# Altium footprint library LED.PcbLib: 32 footprints (part 1 of 2)
Each footprint in its own frame and in the unit in brackets; x right, y up, seen from the top. Pads: shape width x height; smd on the part's side, far side on the other; paste and mask are expansions set on the pad; w line width, h text height; cw(c..) or ccw(c..) is an arc to the next point about the centre after c.
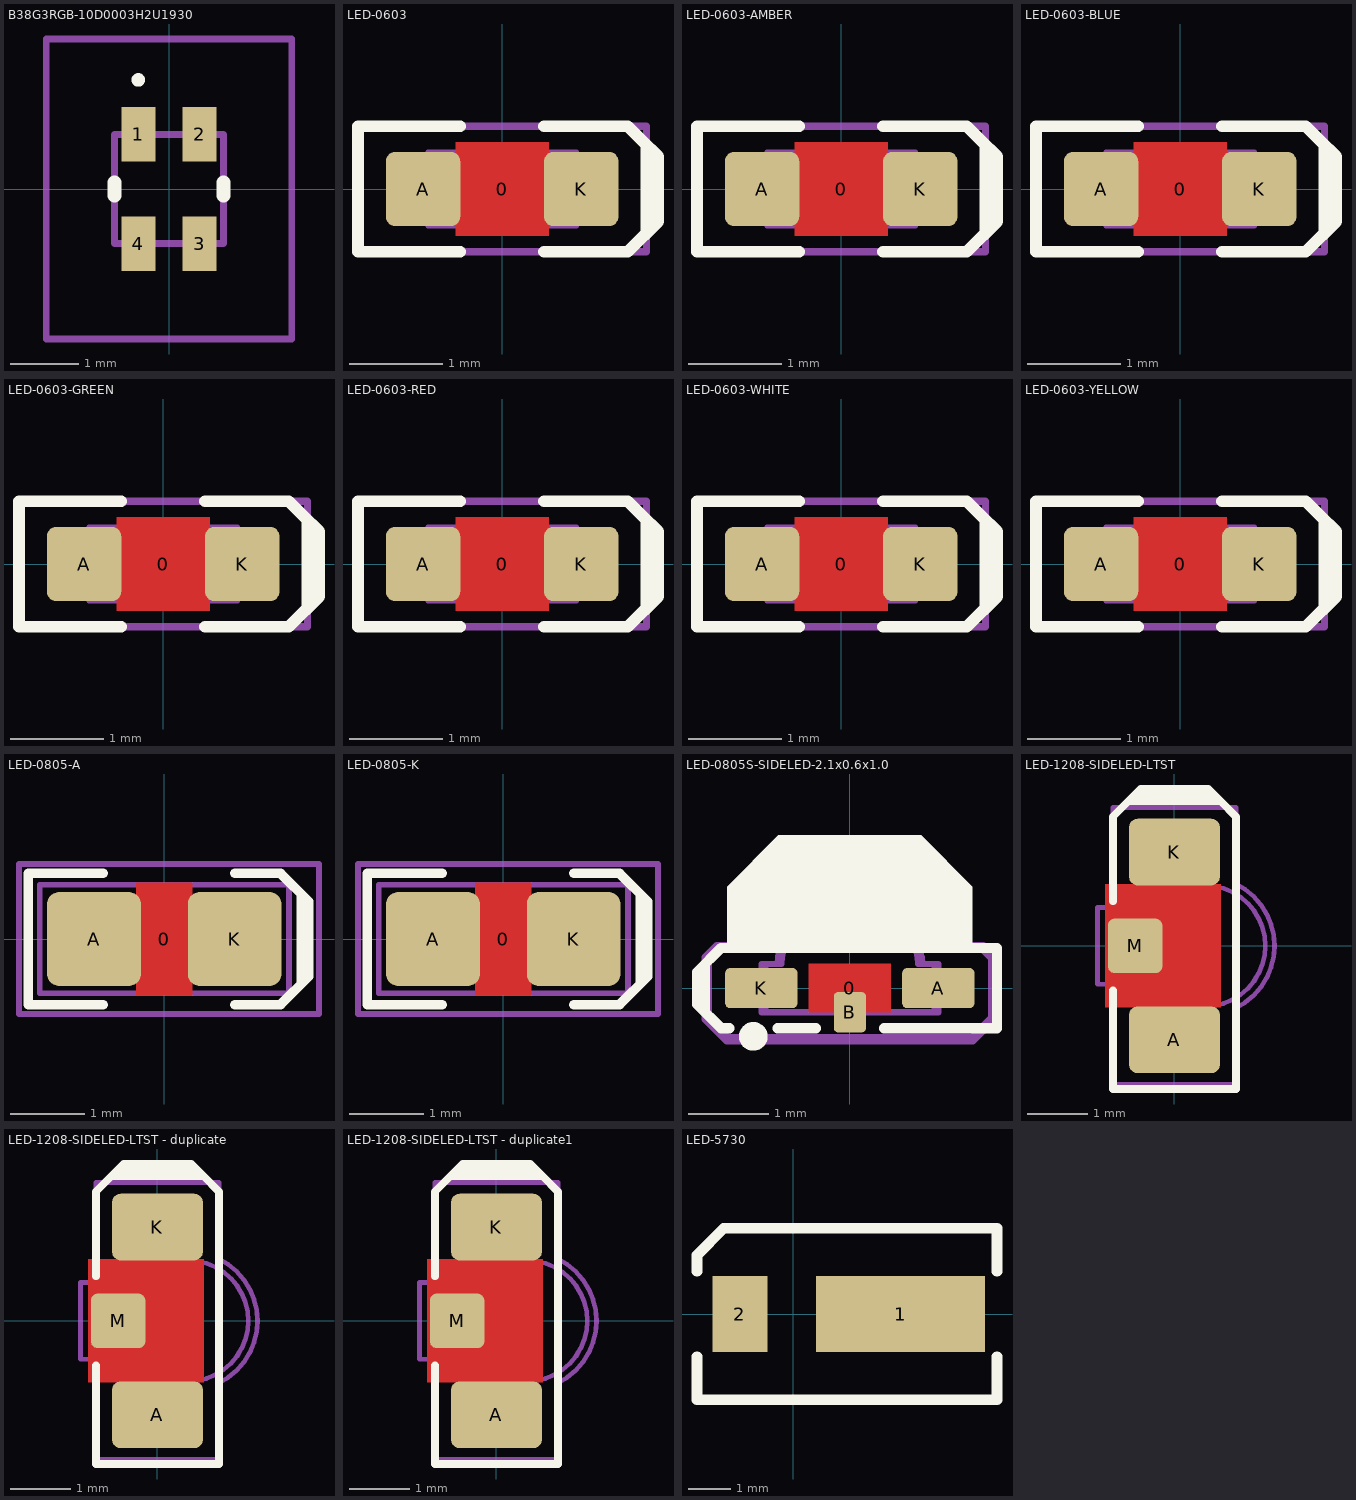
[diagram p0: the footprints below, top view; thin cyan lines are the x and y axes]

## B38G3RGB-10D0003H2U1930 [mm]
pads (4):
  rect 0.5x0.8 smd: 1(-0.45,0.8) 2(0.45,0.8) 3(0.45,-0.8) 4(-0.45,-0.8)
Top Overlay:
  lines w0.1: -0.5,1.6 ccw(c-0.45,1.6) -0.4,1.6 ccw(c-0.45,1.6) -0.5,1.6
  lines w0.2: -0.8,-0.1 -0.8,0.1 ; 0.8,-0.1 0.8,0.1
Mechanical 13:
  lines w0.1: -0.8,-0.8 -0.8,0.8 0.8,0.8 0.8,-0.8 -0.8,-0.8
Mechanical 15:
  lines w0.1: -1.8,-2.2 -1.8,2.2 1.8,2.2 1.8,-2.2 -1.8,-2.2
3D body "B38G3RGB-10D0003H2U1930.stp": height 0.5, standoff 0, extent -0.8,-0.8 0.8,0.8

## BL-HRGB32M-TRB [mm] "3528 PLCC4 RGB W/ IC"
height 1.9

## LED-0603 [mm]
height 0.8
pads (3):
  round 0.254 on Mech15: 0(0,0)
  rrect25% 0.8x0.8 smd: A(-0.85,0) K(0.85,0)
Top Layer:
  pour cut-out: -0.5,0.5 0.5,0.5 0.5,-0.5 -0.5,-0.5
Top Overlay:
  lines w0.127: -0.45,-0.675 -1.55,-0.675 -1.55,0.675 -0.45,0.675 ; 0.45,-0.675 1.35,-0.675 1.55,-0.475 1.55,0.475 1.35,0.675 0.45,0.675 ; 1.5,0.525 1.675,0.35 1.675,-0.35 1.525,-0.5
Mechanical 13:
  lines w0.05: -0.6,-0.4 -0.6,0.399 0.6,0.4 0.6,-0.4 -0.6,-0.399 ; -0.505,-0.398 -0.505,0.398 ; -0.5,-0.4 -0.8,-0.4 -0.8,0.4 -0.5,0.4 ; 0.5,-0.4 0.8,-0.4 0.8,0.4 0.5,0.4 ; 0.505,-0.398 0.505,0.398 ; -0.599,-0.398 -0.599,0.398 0.599,0.398 0.599,-0.398 -0.599,-0.398
Mechanical 15:
  lines w0.076: -1.55,-0.675 -1.55,0.675 1.55,0.675 1.55,-0.675 -1.55,-0.675
3D body "LED 0603 APT1608 GREEN.STEP": height 0.75, standoff 0, extent -0.8,-0.4 0.8,0.4

## LED-0603-AMBER [mm]
height 0.8
pads (3):
  round 0.254 on Mech15: 0(0,0)
  rrect25% 0.8x0.8 smd: A(-0.85,0) K(0.85,0)
Top Layer:
  pour cut-out: -0.5,0.5 0.5,0.5 0.5,-0.5 -0.5,-0.5
Top Overlay:
  lines w0.127: -0.45,-0.675 -1.55,-0.675 -1.55,0.675 -0.45,0.675 ; 0.45,-0.675 1.35,-0.675 1.55,-0.475 1.55,0.475 1.35,0.675 0.45,0.675 ; 1.5,0.525 1.675,0.35 1.675,-0.35 1.525,-0.5
Mechanical 13:
  lines w0.05: -0.6,-0.4 -0.6,0.399 0.6,0.4 0.6,-0.4 -0.6,-0.399 ; -0.505,-0.398 -0.505,0.398 ; -0.5,-0.4 -0.8,-0.4 -0.8,0.4 -0.5,0.4 ; 0.5,-0.4 0.8,-0.4 0.8,0.4 0.5,0.4 ; 0.505,-0.398 0.505,0.398 ; -0.599,-0.398 0.599,-0.398 0.599,0.398 -0.599,0.398 -0.599,-0.398
Mechanical 15:
  lines w0.076: -1.55,-0.675 -1.55,0.675 1.55,0.675 1.55,-0.675 -1.55,-0.675
3D body "LED 0603 APT1608 AMBER.STEP": height 0.75, standoff 0, extent -0.8,-0.4 0.8,0.4

## LED-0603-BLUE [mm]
height 0.8
pads (3):
  round 0.254 on Mech15: 0(0,0)
  rrect25% 0.8x0.8 smd: A(-0.85,0) K(0.85,0)
Top Layer:
  pour cut-out: -0.5,0.5 0.5,0.5 0.5,-0.5 -0.5,-0.5
Top Overlay:
  lines w0.127: -0.45,-0.675 -1.55,-0.675 -1.55,0.675 -0.45,0.675 ; 0.45,-0.675 1.35,-0.675 1.55,-0.475 1.55,0.475 1.35,0.675 0.45,0.675 ; 1.5,0.525 1.675,0.35 1.675,-0.35 1.525,-0.5
Mechanical 13:
  lines w0.05: -0.6,-0.4 -0.6,0.399 0.6,0.4 0.6,-0.4 -0.6,-0.399 ; -0.505,-0.398 -0.505,0.398 ; -0.5,-0.4 -0.8,-0.4 -0.8,0.4 -0.5,0.4 ; 0.5,-0.4 0.8,-0.4 0.8,0.4 0.5,0.4 ; 0.505,-0.398 0.505,0.398 ; -0.599,-0.398 -0.599,0.398 0.599,0.398 0.599,-0.398 -0.599,-0.398
Mechanical 15:
  lines w0.076: -1.55,-0.675 -1.55,0.675 1.55,0.675 1.55,-0.675 -1.55,-0.675
3D body "LED 0603 APT1608 BLUE.STEP": height 0.75, standoff 0, extent -0.8,-0.4 0.8,0.4

## LED-0603-GREEN [mm]
height 0.8
pads (3):
  round 0.254 on Mech15: 0(0,0)
  rrect25% 0.8x0.8 smd: A(-0.85,0) K(0.85,0)
Top Layer:
  pour cut-out: -0.5,0.5 0.5,0.5 0.5,-0.5 -0.5,-0.5
Top Overlay:
  lines w0.127: -0.45,-0.675 -1.55,-0.675 -1.55,0.675 -0.45,0.675 ; 0.45,-0.675 1.35,-0.675 1.55,-0.475 1.55,0.475 1.35,0.675 0.45,0.675 ; 1.5,0.525 1.675,0.35 1.675,-0.35 1.525,-0.5
Mechanical 13:
  lines w0.05: -0.6,-0.4 -0.6,0.399 0.6,0.4 0.6,-0.4 -0.6,-0.399 ; -0.505,-0.398 -0.505,0.398 ; -0.5,-0.4 -0.8,-0.4 -0.8,0.4 -0.5,0.4 ; 0.5,-0.4 0.8,-0.4 0.8,0.4 0.5,0.4 ; 0.505,-0.398 0.505,0.398 ; -0.599,-0.398 -0.599,0.398 0.599,0.398 0.599,-0.398 -0.599,-0.398
Mechanical 15:
  lines w0.076: -1.55,-0.675 1.55,-0.675 1.55,0.675 -1.55,0.675 -1.55,-0.675
3D body "LED 0603 APT1608 GREEN.STEP": height 0.75, standoff 0, extent -0.8,-0.4 0.8,0.4

## LED-0603-RED [mm]
height 0.8
pads (3):
  round 0.254 on Mech15: 0(0,0)
  rrect25% 0.8x0.8 smd: A(-0.85,0) K(0.85,0)
Top Layer:
  pour cut-out: -0.5,0.5 0.5,0.5 0.5,-0.5 -0.5,-0.5
Top Overlay:
  lines w0.127: -0.45,-0.675 -1.55,-0.675 -1.55,0.675 -0.45,0.675 ; 0.45,-0.675 1.35,-0.675 1.55,-0.475 1.55,0.475 1.35,0.675 0.45,0.675 ; 1.5,0.525 1.675,0.35 1.675,-0.35 1.525,-0.5
Mechanical 13:
  lines w0.05: -0.6,-0.4 -0.6,0.399 0.6,0.4 0.6,-0.4 -0.6,-0.399 ; -0.505,-0.398 -0.505,0.398 ; -0.5,-0.4 -0.8,-0.4 -0.8,0.4 -0.5,0.4 ; 0.5,-0.4 0.8,-0.4 0.8,0.4 0.5,0.4 ; 0.505,-0.398 0.505,0.398 ; -0.599,-0.398 -0.599,0.398 0.599,0.398 0.599,-0.398 -0.599,-0.398
Mechanical 15:
  lines w0.076: -1.55,-0.675 1.55,-0.675 1.55,0.675 -1.55,0.675 -1.55,-0.675
3D body "LED 0603 APT1608 RED.STEP": height 0.75, standoff 0, extent -0.8,-0.4 0.8,0.4

## LED-0603-WHITE [mm]
height 0.8
pads (3):
  round 0.254 on Mech15: 0(0,0)
  rrect25% 0.8x0.8 smd: A(-0.85,0) K(0.85,0)
Top Layer:
  pour cut-out: -0.5,0.5 0.5,0.5 0.5,-0.5 -0.5,-0.5
Top Overlay:
  lines w0.127: -0.45,-0.675 -1.55,-0.675 -1.55,0.675 -0.45,0.675 ; 0.45,-0.675 1.35,-0.675 1.55,-0.475 1.55,0.475 1.35,0.675 0.45,0.675 ; 1.5,0.525 1.675,0.35 1.675,-0.35 1.525,-0.5
Mechanical 13:
  lines w0.05: -0.6,-0.4 -0.6,0.399 0.6,0.4 0.6,-0.4 -0.6,-0.399 ; -0.505,-0.398 -0.505,0.398 ; -0.5,-0.4 -0.8,-0.4 -0.8,0.4 -0.5,0.4 ; 0.5,-0.4 0.8,-0.4 0.8,0.4 0.5,0.4 ; 0.505,-0.398 0.505,0.398 ; -0.599,-0.398 -0.599,0.398 0.599,0.398 0.599,-0.398 -0.599,-0.398
Mechanical 15:
  lines w0.076: -1.55,-0.675 1.55,-0.675 1.55,0.675 -1.55,0.675 -1.55,-0.675
3D body "LED 0603 APT1608 WHITE.STEP": height 0.75, standoff 0, extent -0.8,-0.4 0.8,0.4

## LED-0603-YELLOW [mm]
height 0.8
pads (3):
  round 0.254 on Mech15: 0(0,0)
  rrect25% 0.8x0.8 smd: A(-0.85,0) K(0.85,0)
Top Layer:
  pour cut-out: -0.5,0.5 0.5,0.5 0.5,-0.5 -0.5,-0.5
Top Overlay:
  lines w0.127: -0.45,-0.675 -1.55,-0.675 -1.55,0.675 -0.45,0.675 ; 0.45,-0.675 1.35,-0.675 1.55,-0.475 1.55,0.475 1.35,0.675 0.45,0.675 ; 1.5,0.525 1.675,0.35 1.675,-0.35 1.525,-0.5
Mechanical 13:
  lines w0.05: -0.6,-0.4 -0.6,0.399 0.6,0.4 0.6,-0.4 -0.6,-0.399 ; -0.505,-0.398 -0.505,0.398 ; -0.5,-0.4 -0.8,-0.4 -0.8,0.4 -0.5,0.4 ; 0.5,-0.4 0.8,-0.4 0.8,0.4 0.5,0.4 ; 0.505,-0.398 0.505,0.398 ; -0.599,-0.398 0.599,-0.398 0.599,0.398 -0.599,0.398 -0.599,-0.398
Mechanical 15:
  lines w0.076: -1.55,-0.675 1.55,-0.675 1.55,0.675 -1.55,0.675 -1.55,-0.675
3D body "LED 0603 APT1608 YELLOW.STEP": height 0.75, standoff 0, extent -0.8,-0.4 0.8,0.4

## LED-0805-A [mil]
height 31.5
pads (3):
  round 20 on Mech15: 0(0,0)
  rrect25% 50x50 smd: A(-37.5,0) K(37.5,0)
Top Layer:
  pour cut-out: -15,30 15,30 15,-30 -15,-30
Top Overlay:
  lines w5: -32.5,-35 -72.5,-35 -72.5,35 -32.5,35 ; 37.5,-35 62,-35 77,-20 77,20 62,35 37.5,35 ; 73,-24 73,24
Mechanical 13:
  lines w3: -66.5,-29 -66.5,29 66.5,29 66.5,-29 -66.5,-29
Mechanical 15:
  lines w3: -77.5,-40 -77.5,40 82.5,40 82.5,-40 -77.5,-40
3D body: height 3.94, standoff 0, extent -11.81,-15.75 11.81,15.75
3D body: height 3.94, standoff 0, extent -39.37,-24.61 39.37,24.61
3D body: height 11.81, standoff 3.94, extent -39.37,-24.61 39.37,24.61
3D body: height 31.5, standoff 11.81, extent -26.49,-24.61 28.65,24.6

## LED-0805-K [mil]
height 31.5
pads (3):
  round 20 on Mech15: 0(0,0)
  rrect25% 50x50 smd: A(-37.5,0) K(37.5,0)
Top Layer:
  pour cut-out: -15,30 15,30 15,-30 -15,-30
Top Overlay:
  lines w5: -32.5,-35 -72.5,-35 -72.5,35 -32.5,35 ; 37.5,-35 62,-35 77,-20 77,20 62,35 37.5,35 ; 73,-24 73,24
Mechanical 13:
  lines w3: -66.5,-29 66.5,-29 66.5,29 -66.5,29 -66.5,-29
Mechanical 15:
  lines w3: -77.5,-40 82.5,-40 82.5,40 -77.5,40 -77.5,-40
3D body: height 31.5, standoff 11.81, extent -28.65,-24.6 26.49,24.61
3D body: height 11.81, standoff 3.94, extent -39.37,-24.61 39.37,24.61
3D body: height 3.94, standoff 0, extent -39.37,-24.61 39.37,24.61
3D body: height 3.94, standoff 0, extent -11.81,-15.75 11.81,15.75

## LED-0805S-SIDELED-2.1x0.6x1.0 [mm] "Lite-On Inc PLCC Side LED"
height 0.8
pads (4):
  round 0.508 on Mech15: 0(0,0)
  rrect25% 0.9x0.5 smd: A(1.1,0) K(-1.1,0)
  rrect25% 0.4x0.5 smd: B(0,-0.3)
Top Layer:
  pour cut-out: -0.508,0.3 0.508,0.3 0.508,-0.3 -0.508,-0.3
Top Overlay:
  circle w0.203: c-1.2,-0.6 r0.076
  region: -1.524,0.5 1.524,0.5 1.524,1.262 0.889,1.897 -0.889,1.897 -1.524,1.262
  lines w0.127: -1.8,-0.3 -1.8,0.3 ; -1.5,-0.5 -1.6,-0.5 -1.9,-0.2 -1.9,0.2 -1.6,0.5 1.829,0.5 1.829,-0.5 0.425,-0.5 ; -0.9,-0.5 -0.425,-0.5
Mechanical 13:
  lines w0.076: -1.05,-0.3 1.05,-0.3 1.05,0.3 0.85,0.3 ccw(c0.3,0.3) 0.3,0.85 -0.3,0.85 ccw(c-0.3,0.3) -0.85,0.3 -1.05,0.3 -1.05,-0.3
Mechanical 15:
  lines w0.076: -1.1,-0.3 -1.1,0.3 -0.9,0.3 cw(c-0.35,0.3) -0.35,0.85 0.35,0.85 cw(c0.35,0.3) 0.9,0.3 1.1,0.3 1.1,-0.3 -1.1,-0.3
  lines w0.127: -1.778,-0.381 -1.524,-0.635 1.524,-0.635 1.778,-0.381 1.778,0.381 1.651,0.508 1.27,0.508 0.762,1.016 -0.762,1.016 -1.27,0.508 -1.651,0.508 -1.778,0.381 -1.778,-0.381
3D body "LED_SIDELED-2.1x0.6x1.0 WHITE maxtol.STEP": height 0.7, standoff 0, extent -1.1,-0.3 1.1,0.8

## LED-1208-SIDELED-LTST [mm] "Lite-On Inc 1208 SMD Side LED"
height 1
pads (3):
  rrect25% 1.5x1.1 smd: A(0,-1.55) K(0,1.55)
  rrect25% 0.9x0.9 smd: M(-0.65,0)
Top Layer:
  pour cut-out: -1.143,1.016 0.762,1.016 0.762,-1.016 -1.143,-1.016
Top Overlay:
  lines w0.127: -1.016,-0.737 -1.016,-2.362 1.016,-2.362 1.016,2.134 0.762,2.388 ; -1.016,0.737 -1.016,2.134 -0.762,2.388 ; -0.686,2.464 -0.559,2.591 0.559,2.591 0.66,2.489 ; -0.762,2.388 0.762,2.388 ; -0.762,2.388 -0.66,2.489 0.66,2.489 ; 0.66,2.489 0.762,2.388
Mechanical 13:
  lines w0.076: -0.5,-1.5 -0.5,1.5 0.5,1.5 0.5,1 cw(c0.5,0) 1.5,0 cw(c0.5,0) 0.5,-1 0.5,-1.5 -0.5,-1.5
Mechanical 15:
  lines w0.076: -0.508,0 0.508,0 ; 0,-0.508 0,0.508 ; 1.009,-1.027 ccw(c0.508,0) 1.009,1.027 ; 1.016,-1.023 1.016,-2.286 -1.016,-2.286 -1.016,-0.635 -1.27,-0.635 -1.27,0.635 -1.016,0.635 -1.016,2.286 1.016,2.286 1.016,1.023
3D body: height 1, standoff 0, extent -0.5,-1.5 0.5,1.5
3D body: height 1, standoff 0, extent 0.5,-1 1.5,1

## LED-1208-SIDELED-LTST - duplicate [mm] "Lite-On Inc 1208 SMD Side LED"
height 1
pads (3):
  rrect25% 1.5x1.1 smd: A(0,-1.55) K(0,1.55)
  rrect25% 0.9x0.9 smd: M(-0.65,0)
Top Layer:
  pour cut-out: -1.143,1.016 0.762,1.016 0.762,-1.016 -1.143,-1.016
Top Overlay:
  lines w0.127: -1.016,-0.737 -1.016,-2.362 1.016,-2.362 1.016,2.134 0.762,2.388 ; -1.016,0.737 -1.016,2.134 -0.762,2.388 ; -0.686,2.464 -0.559,2.591 0.559,2.591 0.66,2.489 ; -0.762,2.388 0.762,2.388 ; -0.762,2.388 -0.66,2.489 0.66,2.489 ; 0.66,2.489 0.762,2.388
Mechanical 13:
  lines w0.076: -0.5,-1.5 -0.5,1.5 0.5,1.5 0.5,1 cw(c0.5,0) 1.5,0 cw(c0.5,0) 0.5,-1 0.5,-1.5 -0.5,-1.5
Mechanical 15:
  lines w0.076: -0.508,0 0.508,0 ; 0,-0.508 0,0.508 ; 1.009,-1.027 ccw(c0.508,0) 1.009,1.027 ; 1.016,-1.023 1.016,-2.286 -1.016,-2.286 -1.016,-0.635 -1.27,-0.635 -1.27,0.635 -1.016,0.635 -1.016,2.286 1.016,2.286 1.016,1.023
3D body: height 1, standoff 0, extent -0.5,-1.5 0.5,1.5
3D body: height 1, standoff 0, extent 0.5,-1 1.5,1

## LED-1208-SIDELED-LTST - duplicate1 [mm] "Lite-On Inc 1208 SMD Side LED"
height 1
pads (3):
  rrect25% 1.5x1.1 smd: A(0,-1.55) K(0,1.55)
  rrect25% 0.9x0.9 smd: M(-0.65,0)
Top Layer:
  pour cut-out: -1.143,1.016 0.762,1.016 0.762,-1.016 -1.143,-1.016
Top Overlay:
  lines w0.127: -1.016,-0.737 -1.016,-2.362 1.016,-2.362 1.016,2.134 0.762,2.388 ; -1.016,0.737 -1.016,2.134 -0.762,2.388 ; -0.686,2.464 -0.559,2.591 0.559,2.591 0.66,2.489 ; -0.762,2.388 -0.66,2.489 0.66,2.489 ; -0.762,2.388 0.762,2.388 ; 0.66,2.489 0.762,2.388
Mechanical 13:
  lines w0.076: -0.5,-1.5 0.5,-1.5 0.5,-1 ccw(c0.5,0) 1.5,0 ccw(c0.5,0) 0.5,1 0.5,1.5 -0.5,1.5 -0.5,-1.5
Mechanical 15:
  lines w0.076: -0.508,0 0.508,0 ; 0,-0.508 0,0.508 ; 1.009,-1.027 ccw(c0.508,0) 1.009,1.027 ; 1.016,-1.023 1.016,-2.286 -1.016,-2.286 -1.016,-0.635 -1.27,-0.635 -1.27,0.635 -1.016,0.635 -1.016,2.286 1.016,2.286 1.016,1.023
3D body: height 1, standoff 0, extent 0.5,-1 1.5,1
3D body: height 1, standoff 0, extent -0.5,-1.5 0.5,1.5

## LED-5730 [mm]
pads (2):
  rect 4x1.8 smd: 1(2.54,0)
  rect 1.3x1.8 smd: 2(-1.27,0)
Top Overlay:
  lines w0.254: -2.286,-1.016 -2.286,-2.032 4.826,-2.032 4.826,-1.016 ; -2.286,1.016 -2.286,1.395 -1.649,2.032 4.826,2.032 4.826,1.016
3D body "User Library-PLCC-2white.step": height 0.9, standoff 0, extent -1.58,-1.5 4.12,1.5